# Altium footprint library R1966ABLKBLKEPRED.PcbLib: 1 footprints
Each footprint in its own frame and in the unit in brackets; x right, y up, seen from the top. Pads: shape width x height; smd on the part's side, far side on the other; paste and mask are expansions set on the pad; w line width, h text height; cw(c..) or ccw(c..) is an arc to the next point about the centre after c.
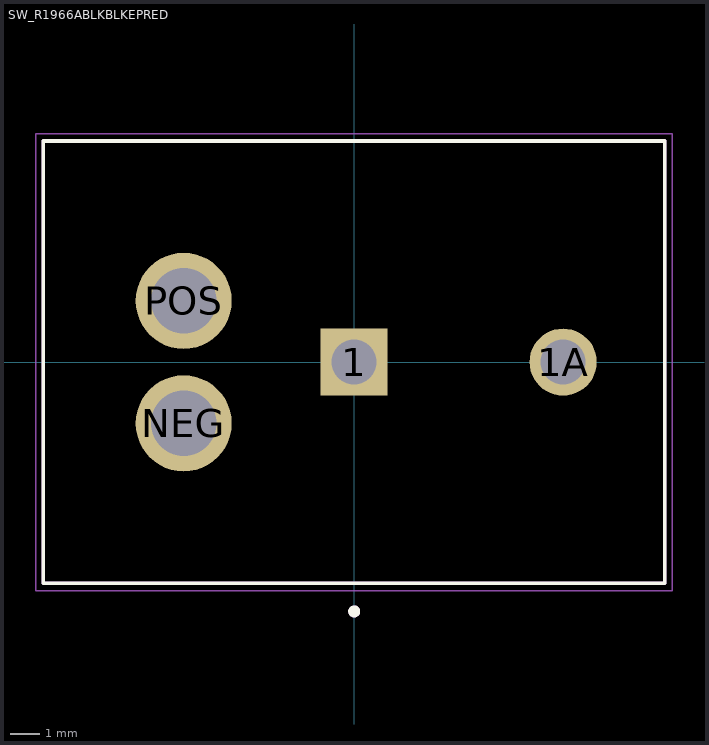
[diagram p0: the footprint, top view; thin cyan lines are the x and y axes]

## SW_R1966ABLKBLKEPRED [mm]
pads (4):
  rect 2.25x2.25 hole 1.5: 1(0,0)
  round 2.25 hole 1.5: 1A(7,0)
  round 3.216 hole 2.2: NEG(-5.7,-2.05) POS(-5.7,2.05)
Top Overlay:
  circle w0.2: c0.006,-8.346 r0.1
  lines w0.127: -10.4,-7.4 -10.4,7.4 10.4,7.4 10.4,-7.4 -10.4,-7.4
Mechanical 13:
  circle w0.2: c0.006,-8.346 r0.1
  lines w0.127: -10.4,-7.4 -10.4,7.4 10.4,7.4 10.4,-7.4 -10.4,-7.4
Mechanical 15:
  lines w0.05: -10.65,-7.65 -10.65,7.65 10.65,7.65 10.65,-7.65 -10.65,-7.65
3D body "step_temp.STEP": height 7.4, standoff -7.4, extent -10.55,-19.96 10.55,13.396